# Altium footprint library INDP6050.PcbLib: 1 footprints
Each footprint in its own frame and in the unit in brackets; x right, y up, seen from the top. Pads: shape width x height; smd on the part's side, far side on the other; paste and mask are expansions set on the pad; w line width, h text height; cw(c..) or ccw(c..) is an arc to the next point about the centre after c.
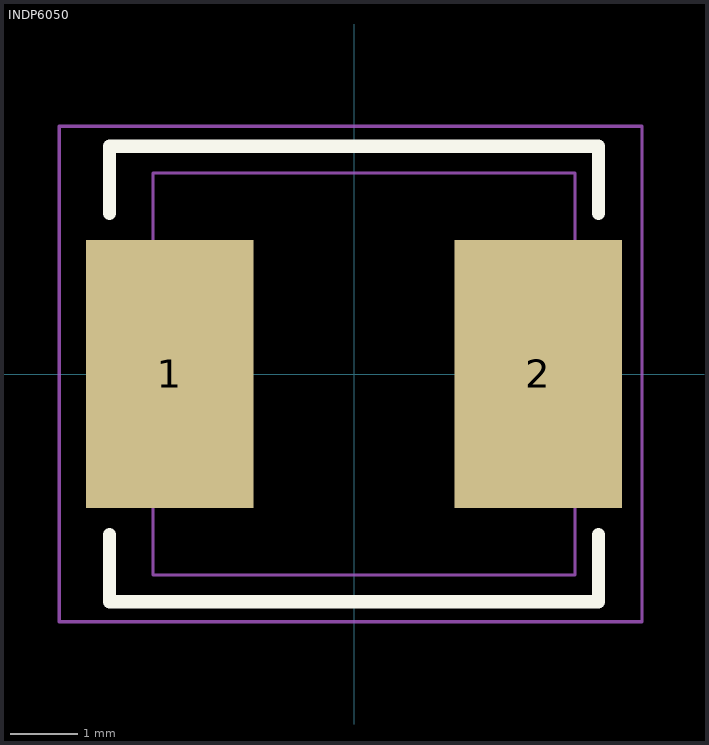
[diagram p0: the footprint, top view; thin cyan lines are the x and y axes]

## INDP6050 [mm] "Chip Inductor, Body 1.0x0.5mm, IPC High Density"
height 0.55
pads (2):
  rect 2.5x4 smd: 1(-2.75,0) 2(2.75,0)
Top Overlay:
  lines w0.2: -3.65,-2.4 -3.65,-3.4 3.65,-3.4 3.65,-2.4 ; -3.65,2.4 -3.65,3.4 3.65,3.4 3.65,2.4
Top Assembly:
  lines w0.05: -3,-3 3.3,-3 3.3,3 -3,3 -3,-3
Top Courtyard:
  lines w0.05: -4.4,-3.7 4.3,-3.7 4.3,3.7 -4.4,3.7 -4.4,-3.7
3D body "SRN6045 Series.STEP": height 4.5, standoff 0, extent -3.023,-3 3.277,3